# Altium schematic symbol library Common.SchLib: 1 symbol
Pins are listed as number, name and electrical type; pins without a type are passive.

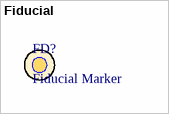
[diagram p0: symbol Fiducial]

## Fiducial
designator FD?, comment Fiducial Marker
footprint FIDUCIAL (Fiducial Marker)